# Altium footprint library CYPCBLIB.PcbLib: 184 footprints (part 3 of 12)
Each footprint in its own frame and in the unit in brackets; x right, y up, seen from the top. Pads: shape width x height; smd on the part's side, far side on the other; paste and mask are expansions set on the pad; w line width, h text height; cw(c..) or ccw(c..) is an arc to the next point about the centre after c.
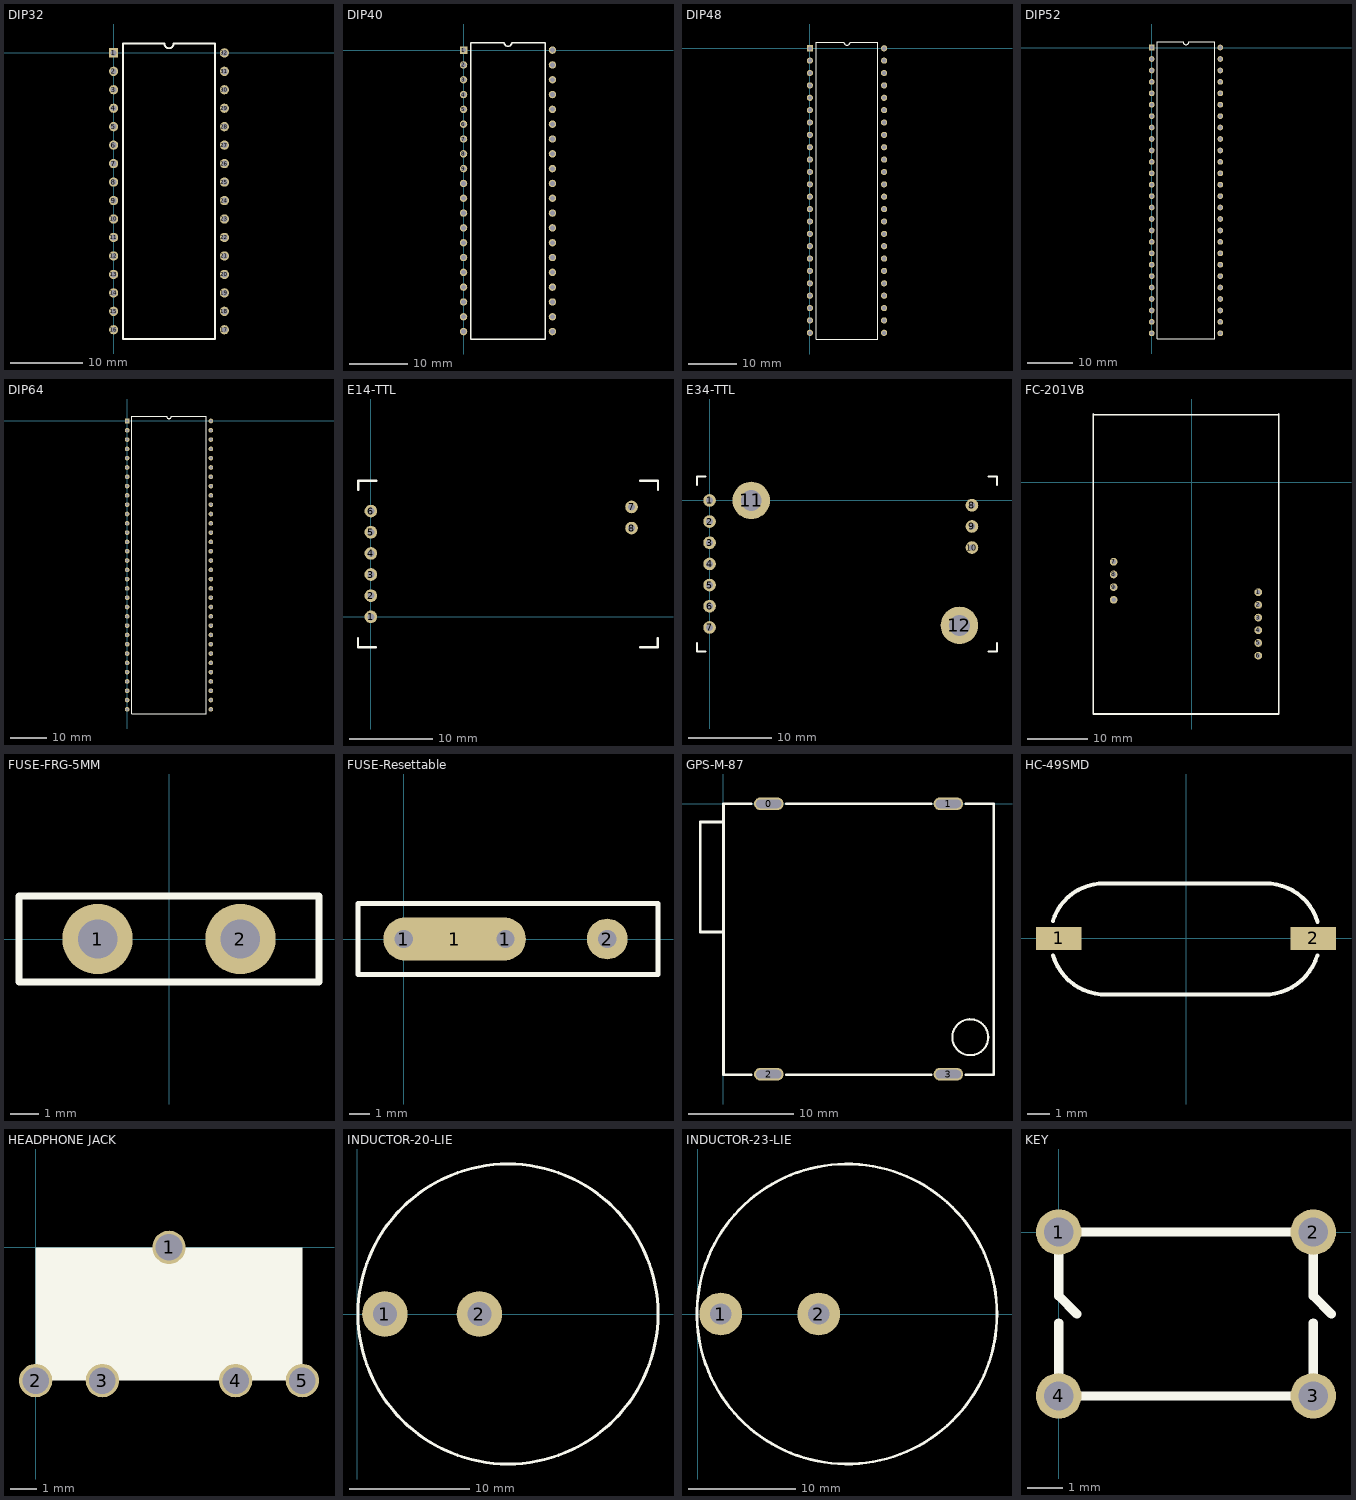
[diagram p2: the footprints below, top view; thin cyan lines are the x and y axes]

## DIP32 [mil]
pads (32):
  rect 50x50 hole 32: 1(0,0)
  round 50 hole 32: 2(0,-100) 3(0,-200) 4(0,-300) 5(0,-400) 6(0,-500) 7(0,-600) 8(0,-700) 9(0,-800) 10(0,-900) 11(0,-1000) 12(0,-1100) 13(0,-1200) 14(0,-1300) 15(0,-1400) 16(0,-1500) 17(600,-1500) 18(600,-1400) 19(600,-1300) 20(600,-1200) 21(600,-1100) 22(600,-1000) 23(600,-900) 24(600,-800) 25(600,-700) 26(600,-600) 27(600,-500) 28(600,-400) 29(600,-300) 30(600,-200) 31(600,-100) 32(600,0)
TopOverlay:
  lines w10: 50,-1550 50,50 275,50 ccw(c300,50) 325,50 550,50 550,-1550 50,-1550

## DIP40 [mil]
pads (40):
  rect 50x50 hole 32: 1(0,0)
  round 50 hole 32: 2(0,-100) 3(0,-200) 4(0,-300) 5(0,-400) 6(0,-500) 7(0,-600) 8(0,-700) 9(0,-800) 10(0,-900) 11(0,-1000) 12(0,-1100) 13(0,-1200) 14(0,-1300) 15(0,-1400) 16(0,-1500) 17(0,-1600) 18(0,-1700) 19(0,-1800) 20(0,-1900) 21(600,-1900) 22(600,-1800) 23(600,-1700) 24(600,-1600) 25(600,-1500) 26(600,-1400) 27(600,-1300) 28(600,-1200) 29(600,-1100) 30(600,-1000) 31(600,-900) 32(600,-800) 33(600,-700) 34(600,-600) 35(600,-500) 36(600,-400) 37(600,-300) 38(600,-200) 39(600,-100) 40(600,0)
TopOverlay:
  lines w10: 50,-1950 550,-1950 550,50 325,50 cw(c300,50) 275,50 50,50 50,-1950

## DIP48 [mil]
pads (48):
  rect 50x50 hole 32: 1(0,0)
  round 50 hole 32: 2(0,-100) 3(0,-200) 4(0,-300) 5(0,-400) 6(0,-500) 7(0,-600) 8(0,-700) 9(0,-800) 10(0,-900) 11(0,-1000) 12(0,-1100) 13(0,-1200) 14(0,-1300) 15(0,-1400) 16(0,-1500) 17(0,-1600) 18(0,-1700) 19(0,-1800) 20(0,-1900) 21(0,-2000) 22(0,-2100) 23(0,-2200) 24(0,-2300) 25(600,-2300) 26(600,-2200) 27(600,-2100) 28(600,-2000) 29(600,-1900) 30(600,-1800) 31(600,-1700) 32(600,-1600) 33(600,-1500) 34(600,-1400) 35(600,-1300) 36(600,-1200) 37(600,-1100) 38(600,-1000) 39(600,-900) 40(600,-800) 41(600,-700) 42(600,-600) 43(600,-500) 44(600,-400) 45(600,-300) 46(600,-200) 47(600,-100) 48(600,0)
TopOverlay:
  lines w10: 50,-2350 550,-2350 550,50 325,50 cw(c300,50) 275,50 50,50 50,-2350

## DIP52 [mil]
pads (52):
  rect 50x50 hole 32: 1(0,0)
  round 50 hole 32: 2(0,-100) 3(0,-200) 4(0,-300) 5(0,-400) 6(0,-500) 7(0,-600) 8(0,-700) 9(0,-800) 10(0,-900) 11(0,-1000) 12(0,-1100) 13(0,-1200) 14(0,-1300) 15(0,-1400) 16(0,-1500) 17(0,-1600) 18(0,-1700) 19(0,-1800) 20(0,-1900) 21(0,-2000) 22(0,-2100) 23(0,-2200) 24(0,-2300) 25(0,-2400) 26(0,-2500) 27(600,-2500) 28(600,-2400) 29(600,-2300) 30(600,-2200) 31(600,-2100) 32(600,-2000) 33(600,-1900) 34(600,-1800) 35(600,-1700) 36(600,-1600) 37(600,-1500) 38(600,-1400) 39(600,-1300) 40(600,-1200) 41(600,-1100) 42(600,-1000) 43(600,-900) 44(600,-800) 45(600,-700) 46(600,-600) 47(600,-500) 48(600,-400) 49(600,-300) 50(600,-200) 51(600,-100) 52(600,0)
TopOverlay:
  lines w10: 50,-2550 550,-2550 550,50 325,50 cw(c300,50) 275,50 50,50 50,-2550

## DIP64 [mil]
pads (64):
  rect 50x50 hole 32: 1(0,0)
  round 50 hole 32: 2(0,-100) 3(0,-200) 4(0,-300) 5(0,-400) 6(0,-500) 7(0,-600) 8(0,-700) 9(0,-800) 10(0,-900) 11(0,-1000) 12(0,-1100) 13(0,-1200) 14(0,-1300) 15(0,-1400) 16(0,-1500) 17(0,-1600) 18(0,-1700) 19(0,-1800) 20(0,-1900) 21(0,-2000) 22(0,-2100) 23(0,-2200) 24(0,-2300) 25(0,-2400) 26(0,-2500) 27(0,-2600) 28(0,-2700) 29(0,-2800) 30(0,-2900) 31(0,-3000) 32(0,-3100) 33(900,-3100) 34(900,-3000) 35(900,-2900) 36(900,-2800) 37(900,-2700) 38(900,-2600) 39(900,-2500) 40(900,-2400) 41(900,-2300) 42(900,-2200) 43(900,-2100) 44(900,-2000) 45(900,-1900) 46(900,-1800) 47(900,-1700) 48(900,-1600) 49(900,-1500) 50(900,-1400) 51(900,-1300) 52(900,-1200) 53(900,-1100) 54(900,-1000) 55(900,-900) 56(900,-800) 57(900,-700) 58(900,-600) 59(900,-500) 60(900,-400) 61(900,-300) 62(900,-200) 63(900,-100) 64(900,0)
TopOverlay:
  lines w10: 50,-3150 50,50 425,50 ccw(c450,50) 475,50 850,50 850,-3150 50,-3150

## E14-TTL [mil] "Ebyte E14-TTL100-SMA"
pads (8):
  round 60 hole 33: 1(0,0) 2(0,100) 3(0,200) 4(0,300) 5(0,400) 6(0,500) 7(1233.07,519.68) 8(1233.07,419.69)
TopOverlay:
  lines w10: -60.84,-143.84 -60.84,-100.3 ; -60.39,-144 25.04,-144 ; -59.84,600.16 -59.84,643.7 25.59,643.7 ; 1273.07,-144 1356.93,-144 ; 1273.62,643.7 1357.48,643.7 ; 1357.16,-143.84 1357.16,-100.3 ; 1358.16,600.16 1358.16,643.7

## E34-TTL [mil] "Ebyte E34-TTL100-SMA"
pads (12):
  round 60 hole 33: 1(0,0) 2(0,-100) 3(0,-200) 4(0,-300) 5(0,-400) 6(0,-500) 7(0,-600.32)
  round 60 hole 30: 8(1240.16,-22.83) 9(1240.16,-122.83) 10(1240.16,-222.83)
  round 177.17 hole 98.43: 11(196.85,0) 12(1181.1,-590.55)
TopOverlay:
  lines w10: -59.61,74.39 -59.61,113.06 ; -59.39,-713.06 -59.39,-674.39 ; -59.06,113.39 -20.39,113.39 ; -58.61,-713.39 -19.94,-713.39 ; 1318.94,113.39 1357.61,113.39 ; 1319.39,-714.39 1358.06,-714.39 ; 1358.39,73.39 1358.39,112.06 ; 1358.61,-714.06 1358.61,-675.39

## FC-201VB [mil]
pads (10):
  round 50 hole 30: 1(435.19,-717.56) 2(435.19,-800.24) 3(435.19,-882.91) 4(435.19,-965.59) 5(435.19,-1048.27) 6(435.19,-1130.94) 7(-507.32,-519.13) 8(-507.32,-601.81) 9(-507.32,-684.49) 10(-507.32,-767.16)
TopOverlay:
  lines w10: -639.61,-1362.44 -639.61,443.86 ; -639.61,-1345.9 -639.61,-1511.26 567.83,-1511.26 ; -639.61,439.92 567.48,439.92 ; 567.48,-1511.26 567.48,443.86

## FUSE-FRG-5MM [mm]
pads (2):
  round 2.5 hole 1.4: 1(-2.54,0) 2(2.54,0)
TopOverlay:
  lines w0.254: -5.334,-1.524 5.334,-1.524 5.334,1.524 -5.334,1.524 -5.334,0 -5.334,-1.524

## FUSE-Resettable [mil]
pads (4):
  round 80 hole 36: 1(0,0) 1(200,0) 2(400,0)
  oval 280x85 smd: 1(100,0)
TopOverlay:
  lines w10: -90,-70 -90,70 500,70 500,-70 -90,-70

## GPS-M-87 [mm]
height 8
pads (4):
  oval 2.8x1.2 hole 0.8 slot 2.4 at 0 deg: 0(4.3,0) 1(21.3,0) 2(4.3,-25.6) 3(21.3,-25.6)
TopOverlay:
  circle w0.2: c23.368,-22.1 r1.7
  lines w0.254: 0,-25.654 2.64,-25.654 ; 0,-25.6 0,0 2.64,0 ; 0,-12.138 -2.2,-12.138 -2.2,-1.724 0,-1.724 ; 5.942,-25.654 19.658,-25.654 ; 5.942,0 19.658,0 ; 22.96,-25.654 25.6,-25.654 ; 22.96,0 25.6,0 25.6,-25.6

## HC-49SMD [mm]
pads (2):
  rect 2x1 smd: 1(-5.588,0) 2(5.588,0)
TopOverlay:
  lines w0.178: -5.849,0.756 cw(c-3.622,0.088) -3.568,2.413 ; -5.842,-0.744 ccw(c-3.531,-0.051) -3.475,-2.464 ; -3.622,2.413 3.521,2.413 ; -3.5,-2.464 3.4,-2.464 ; 3.398,-2.464 ccw(c3.454,-0.051) 5.766,-0.744 ; 3.466,2.413 cw(c3.521,0.056) 5.78,0.733

## HEADPHONE JACK [mil]
pads (5):
  round 50 hole 40: 1(200,0) 2(0,-200) 3(100,-200) 4(300,-200) 5(400,-200)
TopOverlay:
  rectangle: 0,-200 400,0

## INDUCTOR-20-LIE [mm]
pads (2):
  round 3.8 hole 2: 1(2.286,0) 2(10.16,0)
TopOverlay:
  circle w0.254: c12.543,0 r12.5

## INDUCTOR-23-LIE [mm]
pads (2):
  round 4 hole 2: 1(2.159,0) 2(11.303,0)
TopOverlay:
  circle w0.254: c13.94,0 r14

## KEY [mil]
pads (4):
  round 50 hole 32: 1(0,0) 2(280,0) 3(280,-180) 4(0,-180)
TopOverlay:
  lines w10: 0,-100 0,-180 280,-180 280,-100 ; 20,-90 0,-70 0,0 280,0 280,-70 300,-90